# EAGLE library part 7498210003 (library 7498210003)
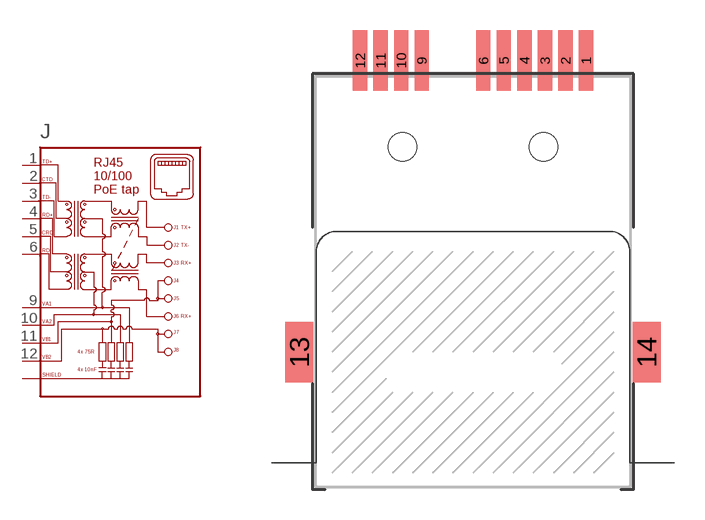
[diagram p0: symbol with the pads of SMD_7498210003; footprint SMD_7498210003]

Designator prefix J

## 7498210003  [SMD_7498210003]
1  1  pas
2  2  pas
3  3  pas
4  4  pas
5  5  pas
6  6  pas
9  9  pas
10  10  pas
11  11  pas
12  12  pas
13  SHIELD  pas
14  SHIELD  pas

## Footprint SMD_7498210003 (pad centres in mm)
smd 0.71 x 3: 1 5.61,20; 2 4.59,20; 3 3.57,20; 4 2.55,20; 5 1.53,20; 6 0.51,20; 9 -2.55,20; 10 -3.57,20; 11 -4.59,20; 12 -5.61,20
smd 1.4 x 3: 13 -8.625,5.5; 14 8.625,5.5
hole 1.4 at -3.5,15.7
hole 1.4 at 3.5,15.7